# EAGLE library part SOC_RV1126B (library !GPLIB_ACTIVE)
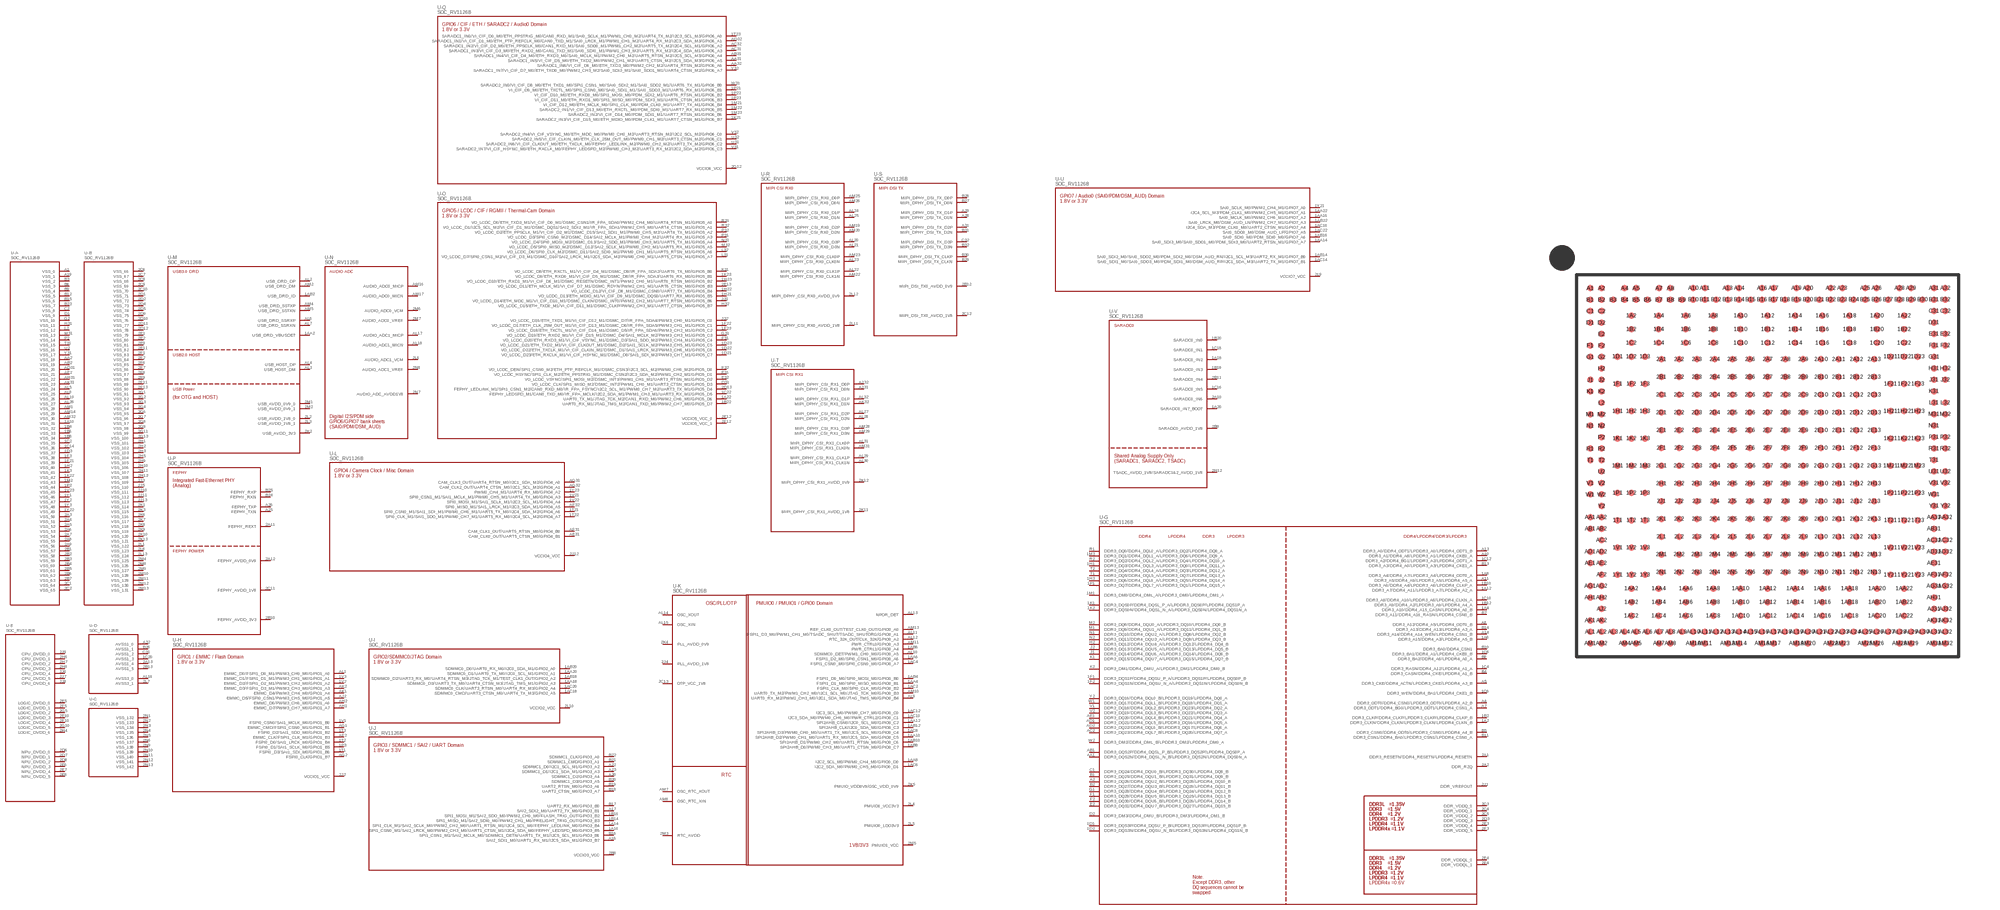
[diagram p106: symbol with the pads of FCCSP-491_L14-W14-TL_RV1126B; footprint FCCSP-491_L14-W14-TL_RV1126B]

Designator prefix U; gates -E=RV1126B-PWR -D=RV1126B-AVSS -A=RV1126B-VSS1 -B=RV1126B-VSS2 -C=RV1126B-VSS3 -M=RV1126B-USB -N=RV1126B-AUDIO-ADC -P=RV1126B-FEPHY -H=RV1126B-GPIO1-EMMC-FSPI -I=RV1126B-GPIO2-SDMMC0 -J=RV1126B-GPIO3-SDMMC1 -L=RV1126B-GPIO4-CAMCLK-MISC -O=RV1126B-GPIO5-LCDC-CIF-RGMII -Q=RV1126B-GPIO6-CIF-ETH -R=RV1126B-MIPI-CSI-RX0 -T=RV1126B-MIPI-CSI-RX1 -S=RV1126B-MIPI-DSI -K=RV1126B-PMU -U=RV1126B-GPIO7-SAI0-PDM-DSM_AUD -V=RV1126B-SARADC -G=RV1126B-DDR

## SOC_RV1126B_RV1126B  [FCCSP-491_L14-W14-TL_RV1126B]
1A2  -G:DDR3_CLKN/DDR4_CLKN/LPDDR3_CLKN/LPDDR4_CLKN_B
1A4  -G:DDR3_A10/DDR4_A15_CASN/LPDDR4_A0_B
1A6  -G:DDR3_A15/DDR4_A3/LPDDR4_A5_B
1A8  -G:DDR3_A4/DDR4_A7/LPDDR3_A4/LPDDR4_ODT0_A
1A10  -A:VSS_31  pwr
1A12  -G:DDR3_A7/DDR4_A11/LPDDR3_A7/LPDDR4_A2_A
1A14  -J:SPI1_CLK_M1/SAI2_SCLK_M0/PWM2_CH2_M0/UART1_RTSN_M1/I2C4_SCL_M0/FEPHY_LEDLINK_M0/GPIO3_B4
1A16  -J:SPI1_CSN0_M1/SAI2_LRCK_M0/PWM2_CH3_M0/UART1_CTSN_M1/I2C4_SDA_M0/FEPHY_LEDSPD_M0/GPIO3_B5
1A18  -V:SARADC0_IN2
1A20  -V:SARADC0_IN7_BOOT  in
1A22  -O:UART0_TX_M1/JTAG_TCK_M2/CAN1_RXD_M0/PWM2_CH6_M0/GPIO5_D6
1AA2  -M:USB_DRD_VBUSDET  in
1AA4  -K:FSPI1_D1_M0/SPI0_MISO_M0/GPIO0_B1
1AA6  -K:FSPI1_D2_M0/SPI0_CSN1_M0/GPIO0_A6
1AA8  -K:I2C2_SCL_M0/PWM0_CH4_M0/GPIO0_D0
1AA10  -K:SPI2AHB_D2/PWM0_CH1_M0/UART1_RX_M0/I2C5_SDA_M0/GPIO0_C5
1AA12  -K:SPI2AHB_CSN0/I2C0_SCL_M0/GPIO0_C2
1AA14  -U:SAI0_SDI3_M0/SAI0_SDO1_M0/PDM_SDI3_M0/UART2_RTSN_M1/GPIO7_A7
1AA16  -U:SAI0_MCLK_M0/PWM2_CH6_M1/GPIO7_A2
1AA18  -I:SDMMC0_D3/UART3_TX_M0/UART4_CTSN_M3/JTAG_TMS_M1/GPIO2_A3
1AA20  -I:SDMMC0_D1/UART0_TX_M0/I2C0_SCL_M1/GPIO2_A1
1AA22  -U:I2C4_SCL_M3/PDM_CLK1_M0/PWM2_CH5_M1/GPIO7_A1
1AB2  -M:USB_DRD_ID
1AB4  -K:FSPI1_D0_M0/SPI0_MOSI_M0/GPIO0_B0
1AB6  -K:PWR_CTRL1/GPIO0_A4
1AB8  -K:SPI2AHB_D0/PWM0_CH3_M0/UART1_CTSN_M0/GPIO0_C7
1AB10  -K:SPI2AHB_D1/PWM0_CH2_M0/UART1_RTSN_M0/GPIO0_C6
1AB12  -K:SPI2AHB_CLK/I2C0_SDA_M0/GPIO0_C3
1AB14  -U:SAI0_SDI2_M0/SAI0_SDO2_M0/PDM_SDI2_M0/DSM_AUD_RN/I2C1_SCL_M3/UART2_RX_M1/GPIO7_B0
1AB16  -U:SAI0_SDI0_M0/PDM_SDI0_M0/GPIO7_A6
1AB18  -I:SDMMC0_D2/UART3_RX_M0/UART4_RTSN_M3/JTAG_TCK_M1/TEST_CLK1_OUT/GPIO2_A2
1AB20  -I:SDMMC0_D0/UART0_RX_M0/I2C0_SDA_M1/GPIO2_A0
1AB22  -U:SAI0_LRCK_M0/DSM_AUD_LN/PWM2_CH7_M1/GPIO7_A3
1AC2  -K:FSPI1_CLK_M0/SPI0_CLK_M0/GPIO0_B2
1AC4  -K:FSPI1_CSN0_M0/SPI0_CSN0_M0/GPIO0_A7
1AC6  -K:I2C2_SDA_M0/PWM0_CH5_M0/GPIO0_D1
1AC8  -K:SPI2AHB_D3/PWM0_CH0_M0/UART1_TX_M0/I2C5_SCL_M0/GPIO0_C4
1AC10  -K:I2C3_SDA_M0/PWM0_CH6_M0/PWR_CTRL2/GPIO0_C1
1AC12  -K:I2C3_SCL_M0/PWM0_CH7_M0/GPIO0_C0
1AC14  -U:SAI0_SDI1_M0/SAI0_SDO3_M0/PDM_SDI1_M0/DSM_AUD_RP/I2C1_SDA_M3/UART2_TX_M1/GPIO7_B1
1AC16  -U:I2C4_SDA_M3/PDM_CLK0_M0/UART2_CTSN_M1/GPIO7_A4
1AC18  -I:SDMMC0_CMD/UART3_CTSN_M0/UART4_TX_M3/GPIO2_A5
1AC20  -I:SDMMC0_CLK/UART3_RTSN_M0/UART4_RX_M3/GPIO2_A4
1AC22  -U:SAI0_SDO0_M0/DSM_AUD_LP/GPIO7_A5
1B2  -G:DDR3_CLKP/DDR4_CLKP/LPDDR3_CLKP/LPDDR4_CLKP_B
1B4  -A:VSS_32  pwr
1B6  -A:VSS_33  pwr
1B8  -A:VSS_34  pwr
1B10  -G:DDR3_A6/DDR4_A4/LPDDR3_A6/LPDDR4_CLKP_A
1B12  -G:DDR3_A9/DDR4_A2/LPDDR3_A9/LPDDR4_A4_A
1B14  -J:SPI1_MISO_M1/SAI2_SDI0_M0/PWM2_CH1_M0/PRELIGHT_TRIG_OUT/GPIO3_B3
1B16  -J:SPI1_MOSI_M1/SAI2_SDO_M0/PWM2_CH0_M0/FLASH_TRIG_OUT/GPIO3_B2
1B18  -V:SARADC0_IN3
1B20  -V:SARADC0_IN0  in
1B22  -O:UART0_RX_M1/JTAG_TMS_M2/CAN1_TXD_M0/PWM2_CH7_M0/GPIO5_D7
1C2  -A:VSS_35  pwr
1C4  -G:DDR3_RASN/DDR4_A12/LPDDR4_A1_A
1C6  -G:DDR3_WEN/DDR4_BA1/LPDDR4_CKE1_B
1C8  -G:DDR3_BA1/DDR4_A1/LPDDR4_CKE0_B
1C10  -G:DDR3_A8/DDR4_A10/LPDDR3_A8/LPDDR4_CLKN_A
1C12  -G:DDR3_A2/DDR4_BG1/LPDDR3_A2/LPDDR4_ODT1_A
1C14  -A:VSS_36  pwr
1C16  -V:SARADC0_IN5
1C18  -V:SARADC0_IN1
1C20  -D:AVSS1_3  pwr
1C22  -O:FEPHY_LEDSPD_M1/CAN0_TXD_M0/IR_FPA_MCLK/I2C2_SDA_M1/PWM1_CH3_M1/UART3_RX_M1/GPIO5_D5
1D1  -G:DDR3_DQS3P/DDR4_DQSU_P_B/LPDDR3_DQS3P/LPDDR4_DQS1P_B
1D2  -G:DDR3_DQS3N/DDR4_DQSU_N_B/LPDDR3_DQS3N/LPDDR4_DQS1N_B
1D3  -A:VSS_37  pwr
1D21  -O:VO_LCDC_D23/ETH_RXCLK_M1/VI_CIF_HSYNC_M1/DSMC_D0/SAI1_SDI_M2/PWM3_CH7_M1/GPIO5_C7
1D22  -O:VO_LCDC_D22/ETH_TXCLK_M1/VI_CIF_CLKIN_M1/DSMC_D1/SAI1_LRCK_M2/PWM3_CH6_M1/GPIO5_C6
1D23  -O:VO_LCDC_D21/ETH_TXD2_M1/VI_CIF_CLKOUT_M1/DSMC_D2/SAI1_SCLK_M2/PWM3_CH5_M1/GPIO5_C5
1F1  -G:DDR3_DQS1P/DDR4_DQSU_P_A/LPDDR3_DQS1P/LPDDR4_DQS0P_B
1F2  -G:DDR3_DQS1N/DDR4_DQSU_N_A/LPDDR3_DQS1N/LPDDR4_DQS0N_B
1F3  -A:VSS_38  pwr
1F21  -A:VSS_39  pwr
1F22  -O:VO_LCDC_D17/ETH_CLK_25M_OUT_M1/VI_CIF_D13_M1/DSMC_D6/IR_FPA_SDA5/PWM3_CH1_M1/GPIO5_C1
1F23  -O:VO_LCDC_D18/ETH_TXCTL_M1/VI_CIF_D14_M1/DSMC_D5/IR_FPA_SDA6/PWM3_CH2_M1/GPIO5_C2
1H1  -G:DDR3_DQ3/DDR4_DQL3_A/LPDDR3_DQ0/LPDDR4_DQ11_A
1H2  -A:VSS_40  pwr
1H3  -G:DDR3_DQ6/DDR4_DQL6_A/LPDDR3_DQ5/LPDDR4_DQ14_A
1H21  -O:VO_LCDC_D13/ETH_MDIO_M1/VI_CIF_D9_M1/DSMC_DQS0/UART7_RX_M0/GPIO5_B5
1H22  -O:VO_LCDC_D12/VI_CIF_D8_M1/DSMC_CSN0/UART7_TX_M0/GPIO5_B4
1H23  -O:VO_LCDC_D10/ETH_RXD1_M1/VI_CIF_D6_M1/DSMC_RESETN/DSMC_INT1/PWM2_CH0_M1/UART6_RTSN_M0/GPIO5_B2
1K1  -G:DDR3_DQS0P/DDR4_DQSL_P_A/LPDDR3_DQS0P/LPDDR4_DQS1P_A
1K2  -G:DDR3_DQS0N/DDR4_DQSL_N_A/LPDDR3_DQS0N/LPDDR4_DQS1N_A
1K3  -A:VSS_41  pwr
1K21  -Q:SARADC2_IN3/VI_CIF_D15_M0/ETH_MDIO_M0/PDM_CLK1_M1/UART7_CTSN_M1/GPIO6_B7
1K22  -A:VSS_42  pwr
1K23  -O:VO_LCDC_D9/ETH_RXD0_M1/VI_CIF_D5_M1/DSMC_D8/IR_FPA_SDA3/UART6_RX_M0/GPIO5_B1
1M1  -G:DDR3_DM0/DDR4_DML_A/LPDDR3_DM0/LPDDR4_DM1_A
1M2  -A:VSS_43  pwr
1M3  -G:DDR3_DQ1/DDR4_DQL1_A/LPDDR3_DQ6/LPDDR4_DQ9_A
1M21  -Q:VI_CIF_D12_M0/ETH_MCLK_M0/SPI1_CLK_M0/PDM_CLK0_M1/UART7_TX_M1/GPIO6_B4
1M22  -Q:SARADC2_IN1/VI_CIF_D13_M0/ETH_RXCTL_M0/PDM_SDI0_M1/UART7_RX_M1/GPIO6_B5
1M23  -Q:SARADC2_IN2/VI_CIF_D14_M0/PDM_SDI1_M1/UART7_RTSN_M1/GPIO6_B6
1P1  -G:DDR3_DQ7/DDR4_DQL7_A/LPDDR3_DQ1/LPDDR4_DQ15_A
1P2  -A:VSS_44  pwr
1P3  -H:FSPI0_D1/SAI1_SCLK_M0/GPIO1_B5
1P21  -Q:VI_CIF_D9_M0/ETH_TXCTL_M0/SPI1_CSN0_M0/SAI0_SDI1_M1/SAI0_SDO3_M1/UART6_RX_M1/GPIO6_B1
1P22  -Q:VI_CIF_D10_M0/ETH_RXD0_M0/SPI1_MOSI_M0/PDM_SDI2_M1/UART6_RTSN_M1/GPIO6_B2
1P23  -Q:VI_CIF_D11_M0/ETH_RXD1_M0/SPI1_MISO_M0/PDM_SDI3_M1/UART6_CTSN_M1/GPIO6_B3
1T1  -H:FSPI0_D3/SAI1_SDI_M0/GPIO1_B6
1T2  -H:FSPI0_D0/SAI1_LRCK_M0/GPIO1_B4
1T3  -H:FSPI0_D2/SAI1_SDO_M0/GPIO1_B2
1T21  -L:SPI0_CSN0_M1/SAI1_SDI_M1/PWM0_CH6_M1/UART5_TX_M0/I2C4_SDA_M2/GPIO4_A6
1T22  -L:SPI0_CLK_M1/SAI1_SDO_M1/PWM0_CH7_M1/UART5_RX_M0/I2C4_SCL_M2/GPIO4_A7
1T23  -Q:SARADC1_IN0/VI_CIF_D0_M0/ETH_PPSTRIG_M0/CAN0_RXD_M1/SAI0_SCLK_M1/PWM1_CH0_M2/UART4_TX_M2/I2C3_SCL_M3/GPIO6_A0
1V1  -H:FSPI0_CSN0/SAI1_MCLK_M0/GPIO1_B0
1V2  -H:EMMC_D2/FSPI1_D2_M1/PWM3_CH2_M0/GPIO1_A2
1V3  -H:EMMC_D1/FSPI1_D1_M1/PWM3_CH1_M0/GPIO1_A1
1V21  -L:SPI0_CSN1_M1/SAI1_MCLK_M1/PWM0_CH5_M1/UART4_TX_M0/GPIO4_A3
1V22  -L:SPI0_MOSI_M1/SAI1_SCLK_M1/I2C3_SCL_M1/GPIO4_A4
1V23  -A:VSS_45  pwr
1Y1  -A:VSS_46  pwr
1Y2  -A:VSS_47  pwr
1Y3  -A:VSS_48  pwr
1Y21  -U:SAI0_SCLK_M0/PWM2_CH4_M1/GPIO7_A0
1Y22  -A:VSS_49  pwr
1Y23  -L:PWM0_CH4_M1/UART4_RX_M0/GPIO4_A2
2A1  -G:DDR3_RESETN/DDR4_RESETN/LPDDR4_RESETN
2A2  -G:DDR_RZQ
2A3  -A:VSS_50  pwr
2A4  -A:VSS_51  pwr
2A5  -A:VSS_52  pwr
2A6  -A:VSS_53  pwr
2A7  -A:VSS_54  pwr
2A8  -A:VSS_55  pwr
2A9  -A:VSS_56  pwr
2A10  -V:SARADC0_IN6
2A11  -P:FEPHY_REXT
2A12  -P:FEPHY_AVDD_0V9
2A13  -D:AVSS1_4  pwr
2B1  -A:VSS_57  pwr
2B2  -A:VSS_58  pwr
2B3  -A:VSS_59  pwr
2B4  -A:VSS_60  pwr
2B5  -A:VSS_61  pwr
2B6  -A:VSS_62  pwr
2B7  -A:VSS_63  pwr
2B8  -J:VCCIO3_VCC
2B9  -V:SARADC0_AVDD_1V8
2B10  -P:FEPHY_AVDD_3V3
2B11  -V:SARADC0_IN4
2B12  -S:MIPI_DSI_TX0_AVDD_0V9
2B13  -D:AVSS1_5  pwr
2C1  -A:VSS_64  pwr
2C2  -A:VSS_65  pwr
2C3  -G:DDR_VDDQ_0
2C4  -G:DDR_VDDQ_1
2C5  -G:DDR_VDDQ_2
2C6  -B:VSS_66  pwr
2C7  -B:VSS_67  pwr
2C8  -B:VSS_68  pwr
2C9  -B:VSS_69  pwr
2C10  -B:VSS_70  pwr
2C11  -P:FEPHY_AVDD_1V8
2C12  -S:MIPI_DSI_TX0_AVDD_1V8
2C13  -K:OTP_VCC_1V8
2D1  -B:VSS_71  pwr
2D2  -B:VSS_72  pwr
2D3  -G:DDR_VDDQ_3
2D4  -B:VSS_73  pwr
2D5  -B:VSS_74  pwr
2D6  -E:NPU_DVDD_0  pwr
2D7  -E:NPU_DVDD_1  pwr
2D8  -E:NPU_DVDD_2  pwr
2D9  -B:VSS_75  pwr
2D10  -B:VSS_76  pwr
2D11  -B:VSS_77  pwr
2D12  -B:VSS_78  pwr
2D13  -O:FEPHY_LEDLINK_M1/SPI1_CSN1_M2/CAN0_RXD_M0/IR_FPA_FSYNC/I2C2_SCL_M1/PWM0_CH7_M2/UART3_TX_M1/GPIO5_D4
2E1  -B:VSS_79  pwr
2E2  -B:VSS_80  pwr
2E3  -G:DDR_VDDQ_4
2E4  -G:DDR_VDDQL_0
2E5  -E:LOGIC_DVDD_0  pwr
2E6  -E:NPU_DVDD_3  pwr
2E7  -E:NPU_DVDD_4  pwr
2E8  -E:NPU_DVDD_5  pwr
2E9  -B:VSS_81  pwr
2E10  -E:LOGIC_DVDD_3  pwr
2E11  -B:VSS_82  pwr
2E12  -O:VCCIO5_VCC_0
2E13  -O:VO_LCDC_D11/ETH_MCLK_M1/VI_CIF_D7_M1/DSMC_RDYN/PWM2_CH1_M1/UART6_CTSN_M0/GPIO5_B3
2F1  -B:VSS_83  pwr
2F2  -B:VSS_84  pwr
2F3  -G:DDR_VDDQ_5
2F4  -G:DDR_VDDQL_1
2F5  -E:LOGIC_DVDD_1  pwr
2F6  -B:VSS_85  pwr
2F7  -B:VSS_86  pwr
2F8  -B:VSS_87  pwr
2F9  -B:VSS_88  pwr
2F10  -E:LOGIC_DVDD_4  pwr
2F11  -B:VSS_89  pwr
2F12  -O:VCCIO5_VCC_1
2F13  -B:VSS_90  pwr
2G1  -B:VSS_91  pwr
2G2  -B:VSS_92  pwr
2G3  -B:VSS_93  pwr
2G4  -B:VSS_94  pwr
2G5  -E:LOGIC_DVDD_2  pwr
2G6  -B:VSS_95  pwr
2G7  -B:VSS_96  pwr
2G8  -B:VSS_97  pwr
2G9  -B:VSS_98  pwr
2G10  -E:LOGIC_DVDD_5  pwr
2G11  -B:VSS_99  pwr
2G12  -Q:VCCIO6_VCC
2G13  -B:VSS_100  pwr
2H1  -B:VSS_101  pwr
2H2  -B:VSS_102  pwr
2H3  -B:VSS_103  pwr
2H4  -E:LOGIC_DVDD_6  pwr
2H5  -B:VSS_104  pwr
2H6  -E:CPU_DVDD_1  pwr
2H7  -E:CPU_DVDD_2  pwr
2H8  -E:CPU_DVDD_3  pwr
2H9  -B:VSS_105  pwr
2H10  -B:VSS_106  pwr
2H11  -B:VSS_107  pwr
2H12  -V:TSADC_AVDD_1V8/SARADC1&2_AVDD_1V8
2H13  -B:VSS_108  pwr
2J1  -G:DDR_VREFOUT
2J2  -H:VCCIO1_VCC
2J3  -B:VSS_109  pwr
2J4  -K:PLL_AVDD_1V8
2J5  -B:VSS_110  pwr
2J6  -E:CPU_DVDD_4  pwr
2J7  -E:CPU_DVDD_5  pwr
2J8  -E:CPU_DVDD_6  pwr
2J9  -E:CPU_DVDD_0  pwr
2J10  -B:VSS_111  pwr
2J11  -B:VSS_112  pwr
2J12  -L:VCCIO4_VCC
2J13  -B:VSS_113  pwr
2K1  -B:VSS_114  pwr
2K2  -M:USB_AVDD_3V3  pwr
2K3  -B:VSS_115  pwr
2K4  -K:PLL_AVDD_0V9
2K5  -K:PMUIO_VDD0V9/OSC_VDD_0V9
2K6  -B:VSS_116  pwr
2K7  -B:VSS_117  pwr
2K8  -B:VSS_118  pwr
2K9  -B:VSS_119  pwr
2K10  -B:VSS_120  pwr
2K11  -T:MIPI_DPHY_CSI_RX1_AVDD_1V8
2K12  -T:MIPI_DPHY_CSI_RX1_AVDD_0V9
2K13  -B:VSS_121  pwr
2L1  -B:VSS_122  pwr
2L2  -M:USB_AVDD_1V8_0  pwr
2L3  -M:USB_AVDD_1V8_1  pwr
2L4  -K:PMUIO0_VCC3V3
2L5  -K:PMUIO0_LDO3V3
2L6  -N:AUDIO_ADC1_VCM
2L7  -D:AVSS3_1  pwr
2L8  -B:VSS_123  pwr
2L9  -U:VCCIO7_VCC
2L10  -I:VCCIO2_VCC
2L11  -R:MIPI_DPHY_CSI_RX0_AVDD_1V8
2L12  -R:MIPI_DPHY_CSI_RX0_AVDD_0V9
2L13  -B:VSS_124  pwr
2M1  -M:USB_AVDD_0V9_0  pwr
2M2  -M:USB_AVDD_0V9_1  pwr
2M3  -K:RTC_AVDD
2M4  -B:VSS_125  pwr
2M5  -K:PMUIO1_VCC
2M6  -N:AUDIO_ADC0_VCM
2M7  -N:AUDIO_ADC0_VREF
2M8  -B:VSS_126  pwr
2M9  -B:VSS_127  pwr
2M10  -B:VSS_128  pwr
2M11  -B:VSS_129  pwr
2M12  -B:VSS_130  pwr
2M13  -B:VSS_131  pwr
2N1  -C:VSS_132  pwr
2N2  -C:VSS_133  pwr
2N3  -C:VSS_134  pwr
2N4  -C:VSS_135  pwr
2N5  -C:VSS_136  pwr
2N6  -C:VSS_137  pwr
2N7  -N:AUDIO_ADC_AVDD1V8
2N8  -N:AUDIO_ADC1_VREF  in
2N9  -C:VSS_138  pwr
2N10  -C:VSS_139  pwr
2N11  -C:VSS_140  pwr
2N12  -C:VSS_141  pwr
2N13  -C:VSS_142  pwr
A1  -A:VSS_0  pwr
A2  -G:DDR3_DQ26/DDR4_DQU2_B/LPDDR3_DQ28/LPDDR4_DQ10_B
A4  -G:DDR3_ODT0/DDR4_CSN0/LPDDR3_ODT0/LPDDR4_A2_B
A5  -G:DDR3_CKE/DDR4_ACTN/LPDDR3_CKE/LPDDR4_A3_B
A7  -G:DDR3_ODT1/DDR4_BG0/LPDDR3_ODT1/LPDDR4_CSN1_A
A8  -G:DDR3_A12/DDR4_A5/LPDDR4_ODT0_B
A10  -G:DDR3_A1/DDR4_A8/LPDDR3_A1/LPDDR4_CKE0_A
A11  -G:DDR3_A5/DDR4_A9/LPDDR3_A5/LPDDR4_A5_A
A13  -G:DDR3_A0/DDR4_ODT1/LPDDR3_A0/LPDDR4_ODT1_B
A14  -G:DDR3_A14/DDR4_A14_WEN/LPDDR4_CSN1_B
A16  -J:SAI2_SDI1_M0/UART1_RX_M1/I2C5_SDA_M1/GPIO3_B7
A17  -J:SAI2_SDI2_M0/UART2_TX_M0/GPIO3_B1
A19  -A:VSS_1  pwr
A20  -J:SDMMC1_D2/GPIO3_A4
A22  -J:SDMMC1_D0/I2C1_SCL_M1/GPIO3_A2
A23  -J:SDMMC1_D1/I2C1_SDA_M1/GPIO3_A3
A25  -P:FEPHY_TXN
A26  -P:FEPHY_TXP
A28  -S:MIPI_DPHY_DSI_TX_D1N
A29  -S:MIPI_DPHY_DSI_TX_D1P
A31  -S:MIPI_DPHY_DSI_TX_D2P
A32  -D:AVSS1_0  pwr
AA1  -G:DDR3_DQS2N/DDR4_DQSL_N_B/LPDDR3_DQS2N/LPDDR4_DQS0N_A
AA2  -A:VSS_18  pwr
AA31  -Q:SARADC1_IN5/VI_CIF_D5_M0/ETH_TXD2_M0/PWM2_CH1_M2/UART5_CTSN_M2/I2C5_SDA_M3/GPIO6_A5
AA32  -Q:SARADC1_IN6/VI_CIF_D6_M0/ETH_TXD3_M0/PWM2_CH2_M2/UART4_RTSN_M2/GPIO6_A6
AB1  -G:DDR3_DQS2P/DDR4_DQSL_P_B/LPDDR3_DQS2P/LPDDR4_DQS0P_A
AB2  -A:VSS_19  pwr
AB31  -Q:SARADC1_IN4/VI_CIF_D4_M0/ETH_RXD3_M0/SAI0_MCLK_M1/PWM2_CH0_M2/UART5_RTSN_M2/I2C5_SCL_M3/GPIO6_A4
AC2  -G:DDR3_DQ23/DDR4_DQL7_B/LPDDR3_DQ20/LPDDR4_DQ7_A
AC31  -Q:SARADC1_IN3/VI_CIF_D3_M0/ETH_RXD2_M0/CAN1_TXD_M1/SAI0_SDI0_M1/PWM1_CH3_M2/UART5_RX_M2/I2C4_SDA_M1/GPIO6_A3
AC32  -Q:SARADC1_IN2/VI_CIF_D2_M0/ETH_PPSCLK_M0/CAN1_RXD_M1/SAI0_SDO0_M1/PWM1_CH2_M2/UART5_TX_M2/I2C4_SCL_M1/GPIO6_A2
AD1  -G:DDR3_DQ21/DDR4_DQL5_B/LPDDR3_DQ16/LPDDR4_DQ5_A
AD2  -G:DDR3_DQ22/DDR4_DQL6_B/LPDDR3_DQ17/LPDDR4_DQ6_A
AD31  -A:VSS_20  pwr
AD32  -Q:SARADC1_IN1/VI_CIF_D1_M0/ETH_PTP_REFCLK_M0/CAN0_TXD_M1/SAI0_LRCK_M1/PWM1_CH1_M2/UART4_RX_M2/I2C3_SDA_M3/GPIO6_A1
AE1  -G:DDR3_DQ20/DDR4_DQL4_B/LPDDR3_DQ21/LPDDR4_DQ4_A
AE2  -A:VSS_21  pwr
AE31  -L:CAM_CLK0_OUT/UART5_CTSN_M0/GPIO4_B1
AF2  -H:EMMC_CLK/FSPI1_CLK_M1/GPIO1_B3
AF31  -L:CAM_CLK1_OUT/UART5_RTSN_M0/GPIO4_B0
AF32  -L:SPI0_MISO_M1/SAI1_LRCK_M1/I2C3_SDA_M1/GPIO4_A5
AG1  -H:EMMC_CMD/FSPI1_CSN0_M1/GPIO1_B1
AG2  -H:FSPI0_CLK/GPIO1_B7
AG31  -L:CAM_CLK3_OUT/UART4_RTSN_M0/I2C1_SDA_M2/GPIO4_A0
AG32  -L:CAM_CLK2_OUT/UART4_CTSN_M0/I2C1_SCL_M2/GPIO4_A1
AH1  -H:EMMC_D7/PWM3_CH7_M0/GPIO1_A7
AH2  -H:EMMC_D6/PWM3_CH6_M0/GPIO1_A6
AH31  -A:VSS_22  pwr
AJ2  -H:EMMC_D5/FSPI0_CSN1/PWM3_CH5_M0/GPIO1_A5
AJ31  -T:MIPI_DPHY_CSI_RX1_D0N
AJ32  -T:MIPI_DPHY_CSI_RX1_D0P
AK1  -H:EMMC_D4/PWM3_CH4_M0/GPIO1_A4
AK2  -H:EMMC_D3/FSPI1_D3_M1/PWM3_CH3_M0/GPIO1_A3
AK31  -A:VSS_23  pwr
AK32  -T:MIPI_DPHY_CSI_RX1_D1N
AL1  -H:EMMC_D0/FSPI1_D0_M1/PWM3_CH0_M0/GPIO1_A0
AL2  -M:USB_DRD_DP
AL3  -M:USB_HOST_DM
AL4  -M:USB_HOST_DP
AL5  -A:VSS_24  pwr
AL6  -M:USB_DRD_SSRXP  in
AL7  -M:USB_DRD_SSRXN  in
AL8  -A:VSS_25  pwr
AL9  -K:UART0_RX_M2/PWM1_CH3_M0/I2C1_SDA_M0/JTAG_TMS_M0/GPIO0_B4
AL10  -K:SDMMC0_DET/PWM1_CH0_M0/GPIO0_A5
AL11  -K:FSPI1_D3_M0/PWM1_CH1_M0/TSADC_SHUT/TSADC_SHUTORG/GPIO0_A1
AL12  -K:RTC_32K_OUT/CLK_32K/GPIO0_A2
AL13  -K:NPOR_DET
AL14  -K:OSC_XOUT
AL15  -K:OSC_XIN
AL16  -D:AVSS3_0  pwr
AL17  -N:AUDIO_ADC1_MICP
AL18  -N:AUDIO_ADC1_MICN
AL19  -A:VSS_26  pwr
AL20  -R:MIPI_DPHY_CSI_RX0_D3P
AL21  -R:MIPI_DPHY_CSI_RX0_D3N
AL22  -R:MIPI_DPHY_CSI_RX0_CLK1P
AL23  -R:MIPI_DPHY_CSI_RX0_CLK0N
AL24  -R:MIPI_DPHY_CSI_RX0_D1P
AL25  -R:MIPI_DPHY_CSI_RX0_D1N
AL26  -A:VSS_27  pwr
AL27  -T:MIPI_DPHY_CSI_RX1_D2P
AL28  -T:MIPI_DPHY_CSI_RX1_D2N
AL29  -T:MIPI_DPHY_CSI_RX1_CLK1P
AL30  -T:MIPI_DPHY_CSI_RX1_CLK1N
AL31  -T:MIPI_DPHY_CSI_RX1_CLK0P
AL32  -T:MIPI_DPHY_CSI_RX1_D1P
AM1  -A:VSS_28  pwr
AM2  -M:USB_DRD_DM
AM4  -M:USB_DRD_SSTXP  out
AM5  -M:USB_DRD_SSTXN  out
AM7  -K:OSC_RTC_XOUT
AM8  -K:OSC_RTC_XIN
AM10  -K:UART0_TX_M2/PWM1_CH2_M0/I2C1_SCL_M0/JTAG_TCK_M0/GPIO0_B3
AM11  -K:PWR_CTRL0/GPIO0_A3
AM13  -K:REF_CLK0_OUT/TEST_CLK0_OUT/GPIO0_A0
AM14  -A:VSS_29  pwr
AM16  -N:AUDIO_ADC0_MICP  in
AM17  -N:AUDIO_ADC0_MICN
AM19  -R:MIPI_DPHY_CSI_RX0_D2P
AM20  -R:MIPI_DPHY_CSI_RX0_D2N
AM22  -R:MIPI_DPHY_CSI_RX0_CLK1N
AM23  -R:MIPI_DPHY_CSI_RX0_CLK0P
AM25  -R:MIPI_DPHY_CSI_RX0_D0P
AM26  -R:MIPI_DPHY_CSI_RX0_D0N
AM28  -T:MIPI_DPHY_CSI_RX1_D3P
AM29  -T:MIPI_DPHY_CSI_RX1_D3N
AM31  -T:MIPI_DPHY_CSI_RX1_CLK0N
AM32  -A:VSS_30  pwr
B1  -G:DDR3_DQ25/DDR4_DQU1_B/LPDDR3_DQ31/LPDDR4_DQ9_B
B2  -G:DDR3_DQ27/DDR4_DQU3_B/LPDDR3_DQ29/LPDDR4_DQ11_B
B3  -A:VSS_2  pwr
B4  -G:DDR3_CASN/DDR4_CKE/LPDDR4_A1_B
B5  -G:DDR3_CSN0/DDR4_ODT0/LPDDR3_CSN0/LPDDR4_A4_B
B6  -A:VSS_3  pwr
B7  -G:DDR3_A11/DDR4_A16_RASN/LPDDR4_CSN0_B
B8  -G:DDR3_BA2/DDR4_A6/LPDDR4_A0_A
B9  -A:VSS_4  pwr
B10  -G:DDR3_BA0/DDR4_CSN1
B11  -G:DDR3_CSN1/DDR4_BA0/LPDDR3_CSN1/LPDDR4_CSN0_A
B12  -A:VSS_5  pwr
B13  -G:DDR3_A3/DDR4_A0/LPDDR3_A3/LPDDR4_CKE1_A
B14  -G:DDR3_A13/DDR4_A13/LPDDR4_A3_A
B15  -A:VSS_6  pwr
B16  -J:SPI1_CSN1_M1/SAI2_MCLK_M0/SDMMC1_DETN/UART1_TX_M1/I2C5_SCL_M1/GPIO3_B6
B17  -J:UART2_RX_M0/GPIO3_B0
B18  -J:UART2_CTSN_M0/GPIO3_A7
B19  -J:UART2_RTSN_M0/GPIO3_A6
B20  -J:SDMMC1_D3/GPIO3_A5
B21  -J:SDMMC1_CMD/GPIO3_A1
B22  -J:SDMMC1_CLK/GPIO3_A0
B23  -A:VSS_7  pwr
B24  -P:FEPHY_RXN
B25  -P:FEPHY_RXP
B26  -D:AVSS1_1  pwr
B27  -S:MIPI_DPHY_DSI_TX_D0N
B28  -S:MIPI_DPHY_DSI_TX_D0P
B29  -S:MIPI_DPHY_DSI_TX_CLKN
B30  -S:MIPI_DPHY_DSI_TX_CLKP
B31  -S:MIPI_DPHY_DSI_TX_D2N
B32  -S:MIPI_DPHY_DSI_TX_D3N
C1  -G:DDR3_DQ24/DDR4_DQU0_B/LPDDR3_DQ30/LPDDR4_DQ8_B
C2  -A:VSS_8  pwr
C31  -D:AVSS1_2  pwr
C32  -S:MIPI_DPHY_DSI_TX_D3P
D1  -A:VSS_9  pwr
D2  -G:DDR3_DM3/DDR4_DMU_B/LPDDR3_DM3/LPDDR4_DM1_B
D31  -O:VO_LCDC_CLK/SPI1_MISO_M2/DSMC_INT2/PWM1_CH0_M1/UART3_CTSN_M1/GPIO5_D3
E2  -G:DDR3_DQ31/DDR4_DQU7_B/LPDDR3_DQ27/LPDDR4_DQ15_B
E31  -O:VO_LCDC_HSYNC/SPI1_CLK_M2/ETH_PPSTRIG_M1/DSMC_CSN2/I2C3_SDA_M2/PWM1_CH2_M1/GPIO5_D1
E32  -O:VO_LCDC_VSYNC/SPI1_MOSI_M2/DSMC_INT3/PWM1_CH1_M1/UART3_RTSN_M1/GPIO5_D2
F1  -G:DDR3_DQ29/DDR4_DQU5_B/LPDDR3_DQ25/LPDDR4_DQ13_B
F2  -G:DDR3_DQ30/DDR4_DQU6_B/LPDDR3_DQ26/LPDDR4_DQ14_B
F31  -O:VO_LCDC_D20/ETH_RXD3_M1/VI_CIF_VSYNC_M1/DSMC_D3/SAI1_SDO_M2/PWM3_CH4_M1/GPIO5_C4
F32  -O:VO_LCDC_DEN/SPI1_CSN0_M2/ETH_PTP_REFCLK_M1/DSMC_CSN3/I2C3_SCL_M2/PWM0_CH6_M2/GPIO5_D0
G1  -G:DDR3_DQ28/DDR4_DQU4_B/LPDDR3_DQ24/LPDDR4_DQ12_B
G2  -A:VSS_10  pwr
G31  -O:VO_LCDC_D19/ETH_RXD2_M1/VI_CIF_D15_M1/DSMC_D4/SAI1_MCLK_M2/PWM3_CH3_M1/GPIO5_C3
H2  -G:DDR3_DQ12/DDR4_DQU4_A/LPDDR3_DQ12/LPDDR4_DQ4_B
H31  -A:VSS_11  pwr
H32  -O:VO_LCDC_D15/ETH_TXD0_M1/VI_CIF_D11_M1/DSMC_CLKP/PWM2_CH3_M1/UART7_CTSN_M0/GPIO5_B7
J1  -G:DDR3_DQ14/DDR4_DQU6_A/LPDDR3_DQ14/LPDDR4_DQ6_B
J2  -G:DDR3_DQ13/DDR4_DQU5_A/LPDDR3_DQ13/LPDDR4_DQ5_B
J31  -O:VO_LCDC_D14/ETH_MDC_M1/VI_CIF_D10_M1/DSMC_CLKN/DSMC_INT0/PWM2_CH2_M1/UART7_RTSN_M0/GPIO5_B6
J32  -O:VO_LCDC_D16/ETH_TXD1_M1/VI_CIF_D12_M1/DSMC_D7/IR_FPA_SDA4/PWM3_CH0_M1/GPIO5_C0
K1  -G:DDR3_DQ15/DDR4_DQU7_A/LPDDR3_DQ15/LPDDR4_DQ7_B
K2  -G:DDR3_DM1/DDR4_DMU_A/LPDDR3_DM1/LPDDR4_DM0_B
K31  -O:VO_LCDC_D8/ETH_RXCTL_M1/VI_CIF_D4_M1/DSMC_D9/IR_FPA_SDA2/UART6_TX_M0/GPIO5_B0
L2  -A:VSS_12  pwr
L31  -O:VO_LCDC_D7/SPI0_CSN1_M2/VI_CIF_D3_M1/DSMC_D10/SAI2_LRCK_M1/I2C5_SDA_M2/PWM0_CH0_M1/UART5_CTSN_M1/GPIO5_A7
L32  -O:VO_LCDC_D6/SPI0_CLK_M2/DSMC_D11/SAI2_SDI0_M1/PWM0_CH1_M1/UART5_RTSN_M1/GPIO5_A6
M1  -G:DDR3_DQ9/DDR4_DQU1_A/LPDDR3_DQ11/LPDDR4_DQ1_B
M2  -G:DDR3_DQ8/DDR4_DQU0_A/LPDDR3_DQ10/LPDDR4_DQ0_B
M31  -A:VSS_13  pwr
M32  -O:VO_LCDC_D5/SPI0_MISO_M2/DSMC_D12/SAI2_SCLK_M1/PWM0_CH2_M1/UART5_RX_M1/GPIO5_A5
N1  -G:DDR3_DQ10/DDR4_DQU2_A/LPDDR3_DQ8/LPDDR4_DQ2_B
N2  -G:DDR3_DQ11/DDR4_DQU3_A/LPDDR3_DQ9/LPDDR4_DQ3_B
N31  -O:VO_LCDC_D4/SPI0_MOSI_M2/DSMC_D13/SAI2_SDO_M1/PWM0_CH3_M1/UART5_TX_M1/GPIO5_A4
P2  -A:VSS_14  pwr
P31  -O:VO_LCDC_D3/SPI0_CSN0_M2/DSMC_D14/SAI2_MCLK_M1/PWM0_CH4_M2/UART4_RX_M1/GPIO5_A3
P32  -O:VO_LCDC_D2/ETH_PPSCLK_M1/VI_CIF_D2_M1/DSMC_D15/SAI2_SDI1_M1/PWM0_CH5_M2/UART4_TX_M1/GPIO5_A2
R1  -G:DDR3_DQ0/DDR4_DQL0_A/LPDDR3_DQ2/LPDDR4_DQ8_A
R2  -G:DDR3_DQ2/DDR4_DQL2_A/LPDDR3_DQ4/LPDDR4_DQ10_A
R31  -O:VO_LCDC_D0/ETH_TXD3_M1/VI_CIF_D0_M1/DSMC_CSN1/IR_FPA_SDA0/PWM2_CH4_M0/UART4_RTSN_M1/GPIO5_A0
R32  -O:VO_LCDC_D1/I2C5_SCL_M2/VI_CIF_D1_M1/DSMC_DQS1/SAI2_SDI2_M1/IR_FPA_SDA1/PWM2_CH5_M0/UART4_CTSN_M1/GPIO5_A1
T1  -G:DDR3_DQ5/DDR4_DQL5_A/LPDDR3_DQ7/LPDDR4_DQ13_A
T2  -G:DDR3_DQ4/DDR4_DQL4_A/LPDDR3_DQ3/LPDDR4_DQ12_A
T31  -A:VSS_15  pwr
U2  -A:VSS_16  pwr
U31  -Q:SARADC2_IN6/VI_CIF_CLKOUT_M0/ETH_TXCLK_M0/FEPHY_LEDLINK_M2/PWM0_CH2_M2/UART3_TX_M2/GPIO6_C2
U32  -Q:SARADC2_IN5/VI_CIF_CLKIN_M0/ETH_CLK_25M_OUT_M0/PWM0_CH1_M2/UART3_CTSN_M2/GPIO6_C1
V1  -G:DDR3_DQ18/DDR4_DQL2_B/LPDDR3_DQ23/LPDDR4_DQ2_A
V2  -G:DDR3_DQ19/DDR4_DQL3_B/LPDDR3_DQ22/LPDDR4_DQ3_A
V31  -Q:SARADC2_IN7/VI_CIF_HSYNC_M0/ETH_RXCLK_M0/FEPHY_LEDSPD_M2/PWM0_CH3_M2/UART3_RX_M2/I2C2_SDA_M2/GPIO6_C3
V32  -Q:SARADC2_IN4/VI_CIF_VSYNC_M0/ETH_MDC_M0/PWM0_CH0_M2/UART3_RTSN_M2/I2C2_SCL_M2/GPIO6_C0
W1  -G:DDR3_DQ17/DDR4_DQL1_B/LPDDR3_DQ18/LPDDR4_DQ1_A
W2  -G:DDR3_DM2/DDR4_DML_B/LPDDR3_DM2/LPDDR4_DM0_A
W31  -Q:SARADC2_IN0/VI_CIF_D8_M0/ETH_TXD1_M0/SPI1_CSN1_M0/SAI0_SDI2_M1/SAI0_SDO2_M1/UART6_TX_M1/GPIO6_B0
Y2  -G:DDR3_DQ16/DDR4_DQL0_B/LPDDR3_DQ19/LPDDR4_DQ0_A
Y31  -A:VSS_17  pwr
Y32  -Q:SARADC1_IN7/VI_CIF_D7_M0/ETH_TXD0_M0/PWM2_CH3_M2/SAI0_SDI3_M1/SAI0_SDO1_M1/UART4_CTSN_M2/GPIO6_A7

## Footprint FCCSP-491_L14-W14-TL_RV1126B (pad centres in mm)
smd 0.24 x 0.24: 1A2 -5,5.5; 1A4 -4,5.5; 1A6 -3,5.5; 1A8 -2,5.5; 1A10 -1,5.5; 1A12 0,5.5; 1A14 1,5.5; 1A16 2,5.5; 1A18 3,5.5; 1A20 4,5.5; 1A22 5,5.5; 1AA2 -5,-4.5; 1AA4 -4,-4.5; 1AA6 -3,-4.5; 1AA8 -2,-4.5; 1AA10 -1,-4.5; 1AA12 0,-4.5; 1AA14 1,-4.5; 1AA16 2,-4.5; 1AA18 3,-4.5; 1AA20 4,-4.5; 1AA22 5,-4.5; 1AB2 -5,-5; 1AB4 -4,-5; 1AB6 -3,-5; 1AB8 -2,-5; 1AB10 -1,-5; 1AB12 0,-5; 1AB14 1,-5; 1AB16 2,-5; 1AB18 3,-5; 1AB20 4,-5; 1AB22 5,-5; 1AC2 -5,-5.5; 1AC4 -4,-5.5; 1AC6 -3,-5.5; 1AC8 -2,-5.5; 1AC10 -1,-5.5; 1AC12 0,-5.5; 1AC14 1,-5.5; 1AC16 2,-5.5; 1AC18 3,-5.5; 1AC20 4,-5.5; 1AC22 5,-5.5; 1B2 -5,5; 1B4 -4,5; 1B6 -3,5; 1B8 -2,5; 1B10 -1,5; 1B12 0,5; 1B14 1,5; 1B16 2,5; 1B18 3,5; 1B20 4,5; 1B22 5,5; 1C2 -5,4.5; 1C4 -4,4.5; 1C6 -3,4.5; 1C8 -2,4.5; 1C10 -1,4.5; 1C12 0,4.5; 1C14 1,4.5; 1C16 2,4.5; 1C18 3,4.5; 1C20 4,4.5; 1C22 5,4.5; 1D1 -5.5,4; 1D2 -5,4; 1D3 -4.5,4; 1D21 4.5,4; 1D22 5,4; 1D23 5.5,4; 1F1 -5.5,3; 1F2 -5,3; 1F3 -4.5,3; 1F21 4.5,3; 1F22 5,3; 1F23 5.5,3; 1H1 -5.5,2; 1H2 -5,2; 1H3 -4.5,2; 1H21 4.5,2; 1H22 5,2; 1H23 5.5,2; 1K1 -5.5,1; 1K2 -5,1; 1K3 -4.5,1; 1K21 4.5,1; 1K22 5,1; 1K23 5.5,1; 1M1 -5.5,0; 1M2 -5,0; 1M3 -4.5,0; 1M21 4.5,0; 1M22 5,0; 1M23 5.5,0; 1P1 -5.5,-1; 1P2 -5,-1; 1P3 -4.5,-1; 1P21 4.5,-1; 1P22 5,-1; 1P23 5.5,-1; 1T1 -5.5,-2; 1T2 -5,-2; 1T3 -4.5,-2; 1T21 4.5,-2; 1T22 5,-2; 1T23 5.5,-2; 1V1 -5.5,-3; 1V2 -5,-3; 1V3 -4.5,-3; 1V21 4.5,-3; 1V22 5,-3; 1V23 5.5,-3; 1Y1 -5.5,-4; 1Y2 -5,-4; 1Y3 -4.5,-4; 1Y21 4.5,-4; 1Y22 5,-4; 1Y23 5.5,-4; 2A1 -3.9,3.9; 2A2 -3.25,3.9; 2A3 -2.6,3.9; 2A4 -1.95,3.9; 2A5 -1.3,3.9; 2A6 -0.65,3.9; 2A7 0,3.9; 2A8 0.65,3.9; 2A9 1.3,3.9; 2A10 1.95,3.9; 2A11 2.6,3.9; 2A12 3.25,3.9; 2A13 3.9,3.9; 2B1 -3.9,3.25; 2B2 -3.25,3.25; 2B3 -2.6,3.25; 2B4 -1.95,3.25; 2B5 -1.3,3.25; 2B6 -0.65,3.25; 2B7 0,3.25; 2B8 0.65,3.25; 2B9 1.3,3.25; 2B10 1.95,3.25; 2B11 2.6,3.25; 2B12 3.25,3.25; 2B13 3.9,3.25; 2C1 -3.9,2.6; 2C2 -3.25,2.6; 2C3 -2.6,2.6; 2C4 -1.95,2.6; 2C5 -1.3,2.6; 2C6 -0.65,2.6; 2C7 0,2.6; 2C8 0.65,2.6; 2C9 1.3,2.6; 2C10 1.95,2.6; 2C11 2.6,2.6; 2C12 3.25,2.6; 2C13 3.9,2.6; 2D1 -3.9,1.95; 2D2 -3.25,1.95; 2D3 -2.6,1.95; 2D4 -1.95,1.95; 2D5 -1.3,1.95; 2D6 -0.65,1.95; 2D7 0,1.95; 2D8 0.65,1.95; 2D9 1.3,1.95; 2D10 1.95,1.95; 2D11 2.6,1.95; 2D12 3.25,1.95; 2D13 3.9,1.95; 2E1 -3.9,1.3; 2E2 -3.25,1.3; 2E3 -2.6,1.3; 2E4 -1.95,1.3; 2E5 -1.3,1.3; 2E6 -0.65,1.3; 2E7 0,1.3; 2E8 0.65,1.3; 2E9 1.3,1.3; 2E10 1.95,1.3; 2E11 2.6,1.3; 2E12 3.25,1.3; 2E13 3.9,1.3; 2F1 -3.9,0.65; 2F2 -3.25,0.65; 2F3 -2.6,0.65; 2F4 -1.95,0.65; 2F5 -1.3,0.65; 2F6 -0.65,0.65; 2F7 0,0.65; 2F8 0.65,0.65; 2F9 1.3,0.65; 2F10 1.95,0.65; 2F11 2.6,0.65; 2F12 3.25,0.65; 2F13 3.9,0.65; 2G1 -3.9,0; 2G2 -3.25,0; 2G3 -2.6,0; 2G4 -1.95,0; 2G5 -1.3,0; 2G6 -0.65,0; 2G7 0,0; 2G8 0.65,0; 2G9 1.3,0; 2G10 1.95,0; 2G11 2.6,0; 2G12 3.25,0; 2G13 3.9,0; 2H1 -3.9,-0.65; 2H2 -3.25,-0.65; 2H3 -2.6,-0.65; 2H4 -1.95,-0.65; 2H5 -1.3,-0.65; 2H6 -0.65,-0.65; 2H7 0,-0.65; 2H8 0.65,-0.65; 2H9 1.3,-0.65; 2H10 1.95,-0.65; 2H11 2.6,-0.65; 2H12 3.25,-0.65; 2H13 3.9,-0.65; 2J1 -3.9,-1.3; 2J2 -3.25,-1.3; 2J3 -2.6,-1.3; 2J4 -1.95,-1.3; 2J5 -1.3,-1.3; 2J6 -0.65,-1.3; 2J7 0,-1.3; 2J8 0.65,-1.3; 2J9 1.3,-1.3; 2J10 1.95,-1.3; 2J11 2.6,-1.3; 2J12 3.25,-1.3; 2J13 3.9,-1.3; 2K1 -3.9,-1.95; 2K2 -3.25,-1.95; 2K3 -2.6,-1.95; 2K4 -1.95,-1.95; 2K5 -1.3,-1.95; 2K6 -0.65,-1.95; 2K7 0,-1.95; 2K8 0.65,-1.95; 2K9 1.3,-1.95; 2K10 1.95,-1.95; 2K11 2.6,-1.95; 2K12 3.25,-1.95; 2K13 3.9,-1.95; 2L1 -3.9,-2.6; 2L2 -3.25,-2.6; 2L3 -2.6,-2.6; 2L4 -1.95,-2.6; 2L5 -1.3,-2.6; 2L6 -0.65,-2.6; 2L7 0,-2.6; 2L8 0.65,-2.6; 2L9 1.3,-2.6; 2L10 1.95,-2.6; 2L11 2.6,-2.6; 2L12 3.25,-2.6; 2L13 3.9,-2.6; 2M1 -3.9,-3.25; 2M2 -3.25,-3.25; 2M3 -2.6,-3.25; 2M4 -1.95,-3.25; 2M5 -1.3,-3.25; 2M6 -0.65,-3.25; 2M7 0,-3.25; 2M8 0.65,-3.25; 2M9 1.3,-3.25; 2M10 1.95,-3.25; 2M11 2.6,-3.25; 2M12 3.25,-3.25; 2M13 3.9,-3.25; 2N1 -3.9,-3.9; 2N2 -3.25,-3.9; 2N3 -2.6,-3.9; 2N4 -1.95,-3.9; 2N5 -1.3,-3.9; 2N6 -0.65,-3.9; 2N7 0,-3.9; 2N8 0.65,-3.9; 2N9 1.3,-3.9; 2N10 1.95,-3.9; 2N11 2.6,-3.9; 2N12 3.25,-3.9; 2N13 3.9,-3.9; A1 -6.51,6.51; A2 -6.09,6.51; A4 -5.25,6.51; A5 -4.83,6.51; A7 -3.99,6.51; A8 -3.57,6.51; A10 -2.73,6.51; A11 -2.31,6.51; A13 -1.47,6.51; A14 -1.05,6.51; A16 -0.21,6.51; A17 0.21,6.51; A19 1.05,6.51; A20 1.47,6.51; A22 2.31,6.51; A23 2.73,6.51; A25 3.57,6.51; A26 3.99,6.51; A28 4.83,6.51; A29 5.25,6.51; A31 6.09,6.51; A32 6.51,6.51; AA1 -6.51,-1.89; AA2 -6.09,-1.89; AA31 6.09,-1.89; AA32 6.51,-1.89; AB1 -6.51,-2.31; AB2 -6.09,-2.31; AB31 6.09,-2.31; AC2 -6.09,-2.73; AC31 6.09,-2.73; AC32 6.51,-2.73; AD1 -6.51,-3.15; AD2 -6.09,-3.15; AD31 6.09,-3.15; AD32 6.51,-3.15; AE1 -6.51,-3.57; AE2 -6.09,-3.57; AE31 6.09,-3.57; AF2 -6.09,-3.99; AF31 6.09,-3.99; AF32 6.51,-3.99; AG1 -6.51,-4.41; AG2 -6.09,-4.41; AG31 6.09,-4.41; AG32 6.51,-4.41; AH1 -6.51,-4.83; AH2 -6.09,-4.83; AH31 6.09,-4.83; AJ2 -6.09,-5.25; AJ31 6.09,-5.25; AJ32 6.51,-5.25; AK1 -6.51,-5.67; AK2 -6.09,-5.67; AK31 6.09,-5.67; AK32 6.51,-5.67; AL1 -6.51,-6.09; AL2 -6.09,-6.09; AL3 -5.67,-6.09; AL4 -5.25,-6.09; AL5 -4.83,-6.09; AL6 -4.41,-6.09; AL7 -3.99,-6.09; AL8 -3.57,-6.09; AL9 -3.15,-6.09; AL10 -2.73,-6.09; AL11 -2.31,-6.09; AL12 -1.89,-6.09; AL13 -1.47,-6.09; AL14 -1.05,-6.09; AL15 -0.63,-6.09; AL16 -0.21,-6.09; AL17 0.21,-6.09; AL18 0.63,-6.09; AL19 1.05,-6.09; AL20 1.47,-6.09; AL21 1.89,-6.09; AL22 2.31,-6.09; AL23 2.73,-6.09; AL24 3.15,-6.09; AL25 3.57,-6.09; AL26 3.99,-6.09; AL27 4.41,-6.09; AL28 4.83,-6.09; AL29 5.25,-6.09; AL30 5.67,-6.09; AL31 6.09,-6.09; AL32 6.51,-6.09; AM1 -6.51,-6.51; AM2 -6.09,-6.51; AM4 -5.25,-6.51; AM5 -4.83,-6.51; AM7 -3.99,-6.51; AM8 -3.57,-6.51; AM10 -2.73,-6.51; AM11 -2.31,-6.51; AM13 -1.47,-6.51; AM14 -1.05,-6.51; AM16 -0.21,-6.51; AM17 0.21,-6.51; AM19 1.05,-6.51; AM20 1.47,-6.51; AM22 2.31,-6.51; AM23 2.73,-6.51; AM25 3.57,-6.51; AM26 3.99,-6.51; AM28 4.83,-6.51; AM29 5.25,-6.51; AM31 6.09,-6.51; AM32 6.51,-6.51; B1 -6.51,6.09; B2 -6.09,6.09; B3 -5.67,6.09; B4 -5.25,6.09; B5 -4.83,6.09; B6 -4.41,6.09; B7 -3.99,6.09; B8 -3.57,6.09; B9 -3.15,6.09; B10 -2.73,6.09; B11 -2.31,6.09; B12 -1.89,6.09; B13 -1.47,6.09; B14 -1.05,6.09; B15 -0.63,6.09; B16 -0.21,6.09; B17 0.21,6.09; B18 0.63,6.09; B19 1.05,6.09; B20 1.47,6.09; B21 1.89,6.09; B22 2.31,6.09; B23 2.73,6.09; B24 3.15,6.09; B25 3.57,6.09; B26 3.99,6.09; B27 4.41,6.09; B28 4.83,6.09; B29 5.25,6.09; B30 5.67,6.09; B31 6.09,6.09; B32 6.51,6.09; C1 -6.51,5.67; C2 -6.09,5.67; C31 6.09,5.67; C32 6.51,5.67; D1 -6.51,5.25; D2 -6.09,5.25; D31 6.09,5.25; E2 -6.09,4.83; E31 6.09,4.83; E32 6.51,4.83; F1 -6.51,4.41; F2 -6.09,4.41; F31 6.09,4.41; F32 6.51,4.41; G1 -6.51,3.99; G2 -6.09,3.99; G31 6.09,3.99; H2 -6.09,3.57; H31 6.09,3.57; H32 6.51,3.57; J1 -6.51,3.15; J2 -6.09,3.15; J31 6.09,3.15; J32 6.51,3.15; K1 -6.51,2.73; K2 -6.09,2.73; K31 6.09,2.73; L2 -6.09,2.31; L31 6.09,2.31; L32 6.51,2.31; M1 -6.51,1.89; M2 -6.09,1.89; M31 6.09,1.89; M32 6.51,1.89; N1 -6.51,1.47; N2 -6.09,1.47; N31 6.09,1.47; P2 -6.09,1.05; P31 6.09,1.05; P32 6.51,1.05; R1 -6.51,0.63; R2 -6.09,0.63; R31 6.09,0.63; R32 6.51,0.63; T1 -6.51,0.21; T2 -6.09,0.21; T31 6.09,0.21; U2 -6.09,-0.21; U31 6.09,-0.21; U32 6.51,-0.21; V1 -6.51,-0.63; V2 -6.09,-0.63; V31 6.09,-0.63; V32 6.51,-0.63; W1 -6.51,-1.05; W2 -6.09,-1.05; W31 6.09,-1.05; Y2 -6.09,-1.47; Y31 6.09,-1.47; Y32 6.51,-1.47